# Altium schematic symbol library WE-PD2A_5848.SchLib: 24 symbols
Pins are listed as number, name and electrical type; pins without a type are passive.

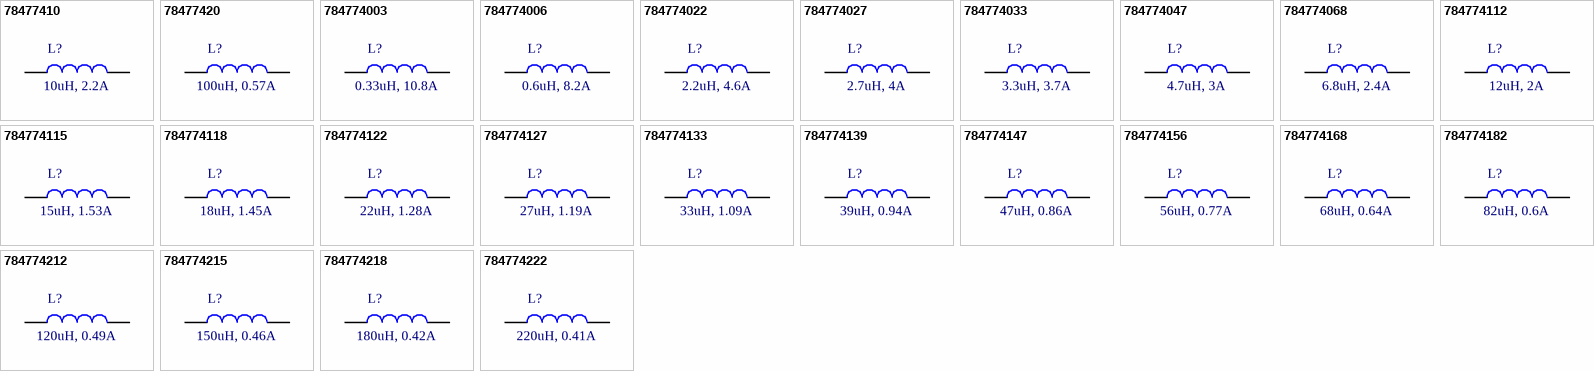
[diagram p0: symbols 78477410 to 784774222]

## 78477410
designator L?, comment 10uH, 2.2A
WE-PD2A SMT Power Inductor, size 5848, 10uH, 2.2A; Manufacturer Part Number: 78477410; Manufacturer: Wurth Elektronik; DC Resistance max.: 0.1Ohm; Saturation Current: 2.5A; Self Resonant Frequency: 26MHz; DC Resistance typ.: 0.078Ohm; Rated Voltage: 80VDC; ComponentLink1Description: Datasheet; ComponentLink1URL: https://www.we-online.com/catalog/datasheet/784774156.pdf; Published Date: May 2020; Rated Current: 2.2A; Inductance: 10uH; Operating Temperature: -40 to +125degC; Packaging: Tape and Reel; Size: 5848; Supplier 2 URL: https://www.digikey.com/en/products/detail/w%C3%BCrth-elektronik/78477410/5168779?s=N4IgTCBcDaIOwA4Asc5IIwAYQF0C%2BQA; Supplier 1 URL: https://www.mouser.vn/ProductDetail/Wurth-Elektronik/78477410?qs=sBf%2Fb4nBSldlX6CYaJExDg%3D%3D; Supplier 3 URL: https://www.thegioiic.com/cuon-cam-dan-smd-cd53-5852-100-10uh-1-8a; Value: 10uH, 2.2A; LCSC Part #: N/A; Mount: SMD/SMT; Supplier 1: Mouser; Supplier 1 Part Number: 710-78477410; Supplier 2: Digi-Key; Supplier 2 Part Number: 732-6830-2-ND; Supplier 3: thegioiic; Supplier 3 Part Number: N/A
footprint WE-PD2A_5848
pins: 1, 2

## 78477420
designator L?, comment 100uH, 0.57A
WE-PD2A SMT Power Inductor, size 5848, 100uH, 0.57A; Manufacturer Part Number: 78477420; Manufacturer: Wurth Elektronik; DC Resistance max.: 0.65Ohm; Saturation Current: 0.68A; Self Resonant Frequency: 7MHz; DC Resistance typ.: 0.51Ohm; Rated Voltage: 80VDC; ComponentLink1Description: Datasheet; ComponentLink1URL: https://www.we-online.com/catalog/datasheet/784774156.pdf; Published Date: May 2020; Rated Current: 0.57A; Inductance: 100uH; Operating Temperature: -40 to +125degC; Packaging: Tape and Reel; Size: 5848; Supplier 2 URL: https://www.digikey.com/en/products/detail/w%C3%BCrth-elektronik/78477420/5168780?s=N4IgTCBcDaIOwA4Asc5LABhAXQL5A; Supplier 1 URL: https://www.mouser.vn/ProductDetail/Wurth-Elektronik/78477420?qs=sBf%2Fb4nBSlcdU46whVu6%2FA%3D%3D; Supplier 3 URL: https://www.thegioiic.com/cuon-cam-dan-smd-cd53-5852-101-100uh-4-5a; Value: 100uH, 0.57A; LCSC Part #: N/A; Mount: SMD/SMT; Supplier 1: Mouser; Supplier 1 Part Number: 710-78477420; Supplier 2: Digi-Key; Supplier 2 Part Number: 732-6842-2-ND; Supplier 3: thegioiic; Supplier 3 Part Number: N/A
footprint WE-PD2A_5848
pins: 1, 2

## 784774003
designator L?, comment 0.33uH, 10.8A
WE-PD2A SMT Power Inductor, size 5848, 0.33uH, 10.8A; Manufacturer Part Number: 784774003; Manufacturer: Wurth Elektronik; DC Resistance max.: 0.008Ohm; Saturation Current: 15.3A; Self Resonant Frequency: 295MHz; DC Resistance typ.: 0.006Ohm; Rated Voltage: 80VDC; ComponentLink1Description: Datasheet; ComponentLink1URL: https://www.we-online.com/catalog/datasheet/784774156.pdf; Published Date: May 2020; Rated Current: 10.8A; Inductance: 0.33uH; Operating Temperature: -40 to +125degC; Packaging: Tape and Reel; Size: 5848; Supplier 2 URL: https://www.digikey.com/en/products/detail/w%C3%BCrth-elektronik/784774003/5168859?s=N4IgTCBcDaIOwA4Asc5IAzoMwgLoF8g; Supplier 1 URL: https://www.mouser.vn/ProductDetail/Wurth-Elektronik/784774003?qs=sBf%2Fb4nBSlfsz1qgrFR5cw%3D%3D; Supplier 3 URL: N/A; Value: 0.33uH, 10.8A; LCSC Part #: N/A; Mount: SMD/SMT; Supplier 1: Mouser; Supplier 1 Part Number: 710-784774003; Supplier 2: Digi-Key; Supplier 2 Part Number: 732-6823-2-ND; Supplier 3: thegioiic; Supplier 3 Part Number: N/A
footprint WE-PD2A_5848 (SMD Power Inductor, body 5.8x5.2mm)
pins: 1, 2

## 784774006
designator L?, comment 0.6uH, 8.2A
WE-PD2A SMT Power Inductor, size 5848, 0.6uH, 8.2A; Manufacturer Part Number: 784774006; Manufacturer: Wurth Elektronik; DC Resistance max.: 0.018Ohm; Saturation Current: 13.5A; Self Resonant Frequency: 210MHz; DC Resistance typ.: 0.009Ohm; Rated Voltage: 80VDC; ComponentLink1Description: Datasheet; ComponentLink1URL: https://www.we-online.com/catalog/datasheet/784774156.pdf; Published Date: May 2020; Rated Current: 8.2A; Inductance: 0.6uH; Operating Temperature: -40 to +125degC; Packaging: Tape and Reel; Size: 5848; Supplier 2 URL: https://www.digikey.com/en/products/detail/w%C3%BCrth-elektronik/784774006/5168860?s=N4IgTCBcDaIOwA4Asc5IAzoGwgLoF8g; Supplier 1 URL: https://www.mouser.vn/ProductDetail/Wurth-Elektronik/784774006?qs=sBf%2Fb4nBSld9EioUyJB1Lg%3D%3D; Supplier 3 URL: N/A; Value: 0.6uH, 8.2A; LCSC Part #: N/A; Mount: SMD/SMT; Supplier 1: Mouser; Supplier 1 Part Number: 710-784774006; Supplier 2: Digi-Key; Supplier 2 Part Number: 732-6824-2-ND; Supplier 3: thegioiic; Supplier 3 Part Number: N/A
footprint WE-PD2A_5848
pins: 1, 2

## 784774022
designator L?, comment 2.2uH, 4.6A
WE-PD2A SMT Power Inductor, size 5848, 2.2uH, 4.6A; Manufacturer Part Number: 784774022; Manufacturer: Wurth Elektronik; DC Resistance max.: 0.041Ohm; Saturation Current: 8.2A; Self Resonant Frequency: 54MHz; DC Resistance typ.: 0.026Ohm; Rated Voltage: 80VDC; ComponentLink1Description: Datasheet; ComponentLink1URL: https://www.we-online.com/catalog/datasheet/784774156.pdf; Published Date: May 2020; Rated Current: 4.6A; Inductance: 2.2uH; Operating Temperature: -40 to +125degC; Packaging: Tape and Reel; Size: 5848; Supplier 2 URL: https://www.digikey.com/en/products/detail/w%C3%BCrth-elektronik/784774022/5168861?s=N4IgTCBcDaIOwA4Asc5IAxggXQL5A; Supplier 1 URL: https://www.mouser.vn/ProductDetail/Wurth-Elektronik/784774022?qs=sBf%2Fb4nBSlfFQ39MxtOnjA%3D%3D; Supplier 3 URL: https://www.thegioiic.com/cuon-cam-dan-smd-cd53-5852-2r2-2-2uh-3-5a; Value: 2.2uH, 4.6A; LCSC Part #: N/A; Mount: SMD/SMT; Supplier 1: Mouser; Supplier 1 Part Number: 710-784774022; Supplier 2: Digi-Key; Supplier 2 Part Number: 732-6825-2-ND; Supplier 3: thegioiic; Supplier 3 Part Number: N/A
footprint WE-PD2A_5848
pins: 1, 2

## 784774027
designator L?, comment 2.7uH, 4A
WE-PD2A SMT Power Inductor, size 5848, 2.7uH, 4A; Manufacturer Part Number: 784774027; Manufacturer: Wurth Elektronik; DC Resistance max.: 0.045Ohm; Saturation Current: 8A; Self Resonant Frequency: 50MHz; DC Resistance typ.: 0.032Ohm; Rated Voltage: 80VDC; ComponentLink1Description: Datasheet; ComponentLink1URL: https://www.we-online.com/catalog/datasheet/784774156.pdf; Published Date: May 2020; Rated Current: 4A; Inductance: 2.7uH; Operating Temperature: -40 to +125degC; Packaging: Tape and Reel; Size: 5848; Supplier 2 URL: https://www.digikey.com/en/products/detail/w%C3%BCrth-elektronik/784774027/5168862?s=N4IgTCBcDaIOwA4Asc5IAxjiAugXyA; Supplier 1 URL: https://www.mouser.vn/ProductDetail/Wurth-Elektronik/784774027?qs=sBf%2Fb4nBSlfgMvNsCt7evg%3D%3D; Supplier 3 URL: https://www.thegioiic.com/cuon-cam-dan-smd-cd53-5852-2r7-2-7uh-3-2a; Value: 2.7uH, 4A; LCSC Part #: N/A; Mount: SMD/SMT; Supplier 1: Mouser; Supplier 1 Part Number: 710-784774027; Supplier 2: Digi-Key; Supplier 2 Part Number: 732-6826-2-ND; Supplier 3: thegioiic; Supplier 3 Part Number: N/A
footprint WE-PD2A_5848
pins: 1, 2

## 784774033
designator L?, comment 3.3uH, 3.7A
WE-PD2A SMT Power Inductor, size 5848, 3.3uH, 3.7A; Manufacturer Part Number: 784774033; Manufacturer: Wurth Elektronik; DC Resistance max.: 0.06Ohm; Saturation Current: 7.5A; Self Resonant Frequency: 43MHz; DC Resistance typ.: 0.042Ohm; Rated Voltage: 80VDC; ComponentLink1Description: Datasheet; ComponentLink1URL: https://www.we-online.com/catalog/datasheet/784774156.pdf; Published Date: May 2020; Rated Current: 3.7A; Inductance: 3.3uH; Operating Temperature: -40 to +125degC; Packaging: Tape and Reel; Size: 5848; Supplier 2 URL: https://www.digikey.com/en/products/detail/w%C3%BCrth-elektronik/784774033/5168863?s=N4IgTCBcDaIOwA4Asc5IAwGZMgLoF8g; Supplier 1 URL: https://www.mouser.vn/ProductDetail/Wurth-Elektronik/784774033?qs=sBf%2Fb4nBSldyuij1RzSGcA%3D%3D; Supplier 3 URL: https://www.thegioiic.com/cuon-cam-dan-smd-cd53-5852-3r3-3-3uh-2-8a; Value: 3.3uH, 3.7A; LCSC Part #: N/A; Mount: SMD/SMT; Supplier 1: Mouser; Supplier 1 Part Number: 710-784774033; Supplier 2: Digi-Key; Supplier 2 Part Number: 732-6827-2-ND; Supplier 3: thegioiic; Supplier 3 Part Number: N/A
footprint WE-PD2A_5848
pins: 1, 2

## 784774047
designator L?, comment 4.7uH, 3A
WE-PD2A SMT Power Inductor, size 5848, 4.7uH, 3A; Manufacturer Part Number: 784774047; Manufacturer: Wurth Elektronik; DC Resistance max.: 0.071Ohm; Saturation Current: 5.5A; Self Resonant Frequency: 33MHz; DC Resistance typ.: 0.056Ohm; Rated Voltage: 80VDC; ComponentLink1Description: Datasheet; ComponentLink1URL: https://www.we-online.com/catalog/datasheet/784774156.pdf; Published Date: May 2020; Rated Current: 3A; Inductance: 4.7uH; Operating Temperature: -40 to +125degC; Packaging: Tape and Reel; Size: 5848; Supplier 2 URL: https://www.digikey.com/en/products/detail/w%C3%BCrth-elektronik/784774047/5168864?s=N4IgTCBcDaIOwA4Asc5IAwpAXQL5A; Supplier 1 URL: https://www.mouser.vn/ProductDetail/Wurth-Elektronik/784774047?qs=sBf%2Fb4nBSld3fMFHG3nO%252Bw%3D%3D; Supplier 3 URL: https://www.thegioiic.com/cuon-cam-dan-smd-cd53-5852-4r7-4-7uh-2-5a; Value: 4.7uH, 3A; LCSC Part #: N/A; Mount: SMD/SMT; Supplier 1: Mouser; Supplier 1 Part Number: 710-784774047; Supplier 2: Digi-Key; Supplier 2 Part Number: 732-6828-2-ND; Supplier 3: thegioiic; Supplier 3 Part Number: N/A
footprint WE-PD2A_5848
pins: 1, 2

## 784774068
designator L?, comment 6.8uH, 2.4A
WE-PD2A SMT Power Inductor, size 5848, 6.8uH, 2.4A; Manufacturer Part Number: 784774068; Manufacturer: Wurth Elektronik; DC Resistance max.: 0.082Ohm; Saturation Current: 5A; Self Resonant Frequency: 28MHz; DC Resistance typ.: 0.071Ohm; Rated Voltage: 80VDC; ComponentLink1Description: Datasheet; ComponentLink1URL: https://www.we-online.com/catalog/datasheet/784774156.pdf; Published Date: May 2020; Rated Current: 2.4A; Inductance: 6.8uH; Operating Temperature: -40 to +125degC; Packaging: Tape and Reel; Size: 5848; Supplier 2 URL: https://www.digikey.com/en/products/detail/w%C3%BCrth-elektronik/784774068/5168865?s=N4IgTCBcDaIOwA4Asc5IAwDYEgLoF8g; Supplier 1 URL: https://www.mouser.vn/ProductDetail/Wurth-Elektronik/784774068?qs=sBf%2Fb4nBSlfEjoZazogbYQ%3D%3D; Supplier 3 URL: https://www.thegioiic.com/cuon-cam-dan-smd-cd53-5852-6r8-6-8uh-2-2a; Value: 6.8uH, 2.4A; LCSC Part #: N/A; Mount: SMD/SMT; Supplier 1: Mouser; Supplier 1 Part Number: 710-784774068; Supplier 2: Digi-Key; Supplier 2 Part Number: 732-6829-2-ND; Supplier 3: thegioiic; Supplier 3 Part Number: N/A
footprint WE-PD2A_5848
pins: 1, 2

## 784774112
designator L?, comment 12uH, 2A
WE-PD2A SMT Power Inductor, size 5848, 12uH, 2A; Manufacturer Part Number: 784774112; Manufacturer: Wurth Elektronik; DC Resistance max.: 0.11Ohm; Saturation Current: 1.94A; Self Resonant Frequency: 24MHz; DC Resistance typ.: 0.082Ohm; Rated Voltage: 80VDC; ComponentLink1Description: Datasheet; ComponentLink1URL: https://www.we-online.com/catalog/datasheet/784774156.pdf; Published Date: May 2020; Rated Current: 2A; Inductance: 12uH; Operating Temperature: -40 to +125degC; Packaging: Tape and Reel; Size: 5848; Supplier 2 URL: https://www.digikey.com/en/products/detail/w%C3%BCrth-elektronik/784774112/5168866?s=N4IgTCBcDaIOwA4Asc5IIzogXQL5A; Supplier 1 URL: https://www.mouser.vn/ProductDetail/Wurth-Elektronik/784774112?qs=sBf%2Fb4nBSlcatMhetvXIaQ%3D%3D; Supplier 3 URL: N/A; Value: 12uH, 2A; LCSC Part #: N/A; Mount: SMD/SMT; Supplier 1: Mouser; Supplier 1 Part Number: 710-784774112; Supplier 2: Digi-Key; Supplier 2 Part Number: 732-6831-2-ND; Supplier 3: thegioiic; Supplier 3 Part Number: N/A
footprint WE-PD2A_5848
pins: 1, 2

## 784774115
designator L?, comment 15uH, 1.53A
WE-PD2A SMT Power Inductor, size 5848, 15uH, 1.53A; Manufacturer Part Number: 784774115; Manufacturer: Wurth Elektronik; DC Resistance max.: 0.14Ohm; Saturation Current: 1.9A; Self Resonant Frequency: 20MHz; DC Resistance typ.: 0.089Ohm; Rated Voltage: 80VDC; ComponentLink1Description: Datasheet; ComponentLink1URL: https://www.we-online.com/catalog/datasheet/784774156.pdf; Published Date: May 2020; Rated Current: 1.53A; Inductance: 15uH; Operating Temperature: -40 to +125degC; Packaging: Tape and Reel; Size: 5848; Supplier 2 URL: https://www.digikey.com/en/products/detail/w%C3%BCrth-elektronik/784774115/5168867?s=N4IgTCBcDaIOwA4Asc5IIzoKwgLoF8g; Supplier 1 URL: https://www.mouser.vn/ProductDetail/Wurth-Elektronik/784774115?qs=sBf%2Fb4nBSleoo7TtqR8SIg%3D%3D; Supplier 3 URL: https://www.thegioiic.com/cuon-cam-dan-smd-cd53-5852-150-15uh-1-7a; Value: 15uH, 1.53A; LCSC Part #: N/A; Mount: SMD/SMT; Supplier 1: Mouser; Supplier 1 Part Number: 710-784774115; Supplier 2: Digi-Key; Supplier 2 Part Number: 732-6832-2-ND; Supplier 3: thegioiic; Supplier 3 Part Number: N/A
footprint WE-PD2A_5848
pins: 1, 2

## 784774118
designator L?, comment 18uH, 1.45A
WE-PD2A SMT Power Inductor, size 5848, 18uH, 1.45A; Manufacturer Part Number: 784774118; Manufacturer: Wurth Elektronik; DC Resistance max.: 0.15Ohm; Saturation Current: 1.69A; Self Resonant Frequency: 19MHz; DC Resistance typ.: 0.104Ohm; Rated Voltage: 80VDC; ComponentLink1Description: Datasheet; ComponentLink1URL: https://www.we-online.com/catalog/datasheet/784774156.pdf; Published Date: May 2020; Rated Current: 1.45A; Inductance: 18uH; Operating Temperature: -40 to +125degC; Packaging: Tape and Reel; Size: 5848; Supplier 2 URL: https://www.digikey.com/en/products/detail/w%C3%BCrth-elektronik/784774118/5168868?s=N4IgTCBcDaIOwA4Asc5IIzoSAugXyA; Supplier 1 URL: https://www.mouser.vn/ProductDetail/Wurth-Elektronik/784774118?qs=sBf%2Fb4nBSldyi82E%2Fy0cEQ%3D%3D; Supplier 3 URL: https://www.thegioiic.com/cuon-cam-dan-smd-cd53-5852-180-18uh-1-6a; Value: 18uH, 1.45A; LCSC Part #: N/A; Mount: SMD/SMT; Supplier 1: Mouser; Supplier 1 Part Number: 710-784774118; Supplier 2: Digi-Key; Supplier 2 Part Number: 732-6833-2-ND; Supplier 3: thegioiic; Supplier 3 Part Number: N/A
footprint WE-PD2A_5848
pins: 1, 2

## 784774122
designator L?, comment 22uH, 1.28A
WE-PD2A SMT Power Inductor, size 5848, 22uH, 1.28A; Manufacturer Part Number: 784774122; Manufacturer: Wurth Elektronik; DC Resistance max.: 0.18Ohm; Saturation Current: 1.53A; Self Resonant Frequency: 16MHz; DC Resistance typ.: 0.109Ohm; Rated Voltage: 80VDC; ComponentLink1Description: Datasheet; ComponentLink1URL: https://www.we-online.com/catalog/datasheet/784774156.pdf; Published Date: May 2020; Rated Current: 1.28A; Inductance: 22uH; Operating Temperature: -40 to +125degC; Packaging: Tape and Reel; Size: 5848; Supplier 2 URL: https://www.digikey.com/en/products/detail/w%C3%BCrth-elektronik/784774122/5168869?s=N4IgTCBcDaIOwA4Asc5IIxggXQL5A; Supplier 1 URL: https://www.mouser.vn/ProductDetail/Wurth-Elektronik/784774122?qs=sBf%2Fb4nBSlfVM2OiWUTSBg%3D%3D; Supplier 3 URL: https://www.thegioiic.com/cuon-cam-dan-smd-cd53-5852-220-22uh-1-5a; Value: 22uH, 1.28A; LCSC Part #: N/A; Mount: SMD/SMT; Supplier 1: Mouser; Supplier 1 Part Number: 710-784774122; Supplier 2: Digi-Key; Supplier 2 Part Number: 732-6834-2-ND; Supplier 3: thegioiic; Supplier 3 Part Number: N/A
footprint WE-PD2A_5848
pins: 1, 2

## 784774127
designator L?, comment 27uH, 1.19A
WE-PD2A SMT Power Inductor, size 5848, 27uH, 1.19A; Manufacturer Part Number: 784774127; Manufacturer: Wurth Elektronik; DC Resistance max.: 0.2Ohm; Saturation Current: 1.4A; Self Resonant Frequency: 15MHz; DC Resistance typ.: 0.133Ohm; Rated Voltage: 80VDC; ComponentLink1Description: Datasheet; ComponentLink1URL: https://www.we-online.com/catalog/datasheet/784774156.pdf; Published Date: May 2020; Rated Current: 1.19A; Inductance: 27uH; Operating Temperature: -40 to +125degC; Packaging: Tape and Reel; Size: 5848; Supplier 2 URL: https://www.digikey.com/en/products/detail/w%C3%BCrth-elektronik/784774127/5168870?s=N4IgTCBcDaIOwA4Asc5IIxjiAugXyA; Supplier 1 URL: https://www.mouser.vn/ProductDetail/Wurth-Elektronik/784774127?qs=sBf%2Fb4nBSldrlnc5m4le1w%3D%3D; Supplier 3 URL: https://www.thegioiic.com/cuon-cam-dan-smd-cd53-5852-270-27uh-1-4a; Value: 27uH, 1.19A; LCSC Part #: N/A; Mount: SMD/SMT; Supplier 1: Mouser; Supplier 1 Part Number: 710-784774127; Supplier 2: Digi-Key; Supplier 2 Part Number: 732-6835-2-ND; Supplier 3: thegioiic; Supplier 3 Part Number: N/A
footprint WE-PD2A_5848
pins: 1, 2

## 784774133
designator L?, comment 33uH, 1.09A
WE-PD2A SMT Power Inductor, size 5848, 33uH, 1.09A; Manufacturer Part Number: 784774133; Manufacturer: Wurth Elektronik; DC Resistance max.: 0.23Ohm; Saturation Current: 1.17A; Self Resonant Frequency: 14MHz; DC Resistance typ.: 0.15Ohm; Rated Voltage: 80VDC; ComponentLink1Description: Datasheet; ComponentLink1URL: https://www.we-online.com/catalog/datasheet/784774156.pdf; Published Date: May 2020; Rated Current: 1.09A; Inductance: 33uH; Operating Temperature: -40 to +125degC; Packaging: Tape and Reel; Size: 5848; Supplier 2 URL: https://www.digikey.com/en/products/detail/w%C3%BCrth-elektronik/784774133/5168871?s=N4IgTCBcDaIOwA4Asc5IIwGZMgLoF8g; Supplier 1 URL: https://www.mouser.vn/ProductDetail/Wurth-Elektronik/784774133?qs=sBf%2Fb4nBSlcKSvlJ1UQYww%3D%3D; Supplier 3 URL: https://www.thegioiic.com/cuon-cam-dan-smd-cd53-5852-330-33uh-1-1a; Value: 33uH, 1.09A; LCSC Part #: N/A; Mount: SMD/SMT; Supplier 1: Mouser; Supplier 1 Part Number: 710-784774133; Supplier 2: Digi-Key; Supplier 2 Part Number: 732-6836-2-ND; Supplier 3: thegioiic; Supplier 3 Part Number: N/A
footprint WE-PD2A_5848
pins: 1, 2

## 784774139
designator L?, comment 39uH, 0.94A
WE-PD2A SMT Power Inductor, size 5848, 39uH, 0.94A; Manufacturer Part Number: 784774139; Manufacturer: Wurth Elektronik; DC Resistance max.: 0.32Ohm; Saturation Current: 1.1A; Self Resonant Frequency: 12MHz; DC Resistance typ.: 0.215Ohm; Rated Voltage: 80VDC; ComponentLink1Description: Datasheet; ComponentLink1URL: https://www.we-online.com/catalog/datasheet/784774156.pdf; Published Date: May 2020; Rated Current: 0.94A; Inductance: 39uH; Operating Temperature: -40 to +125degC; Packaging: Tape and Reel; Size: 5848; Supplier 2 URL: https://www.digikey.com/en/products/detail/w%C3%BCrth-elektronik/784774139/5168872?s=N4IgTCBcDaIOwA4Asc5IIwGYCcIC6AvkA; Supplier 1 URL: https://www.mouser.vn/ProductDetail/Wurth-Elektronik/784774139?qs=sBf%2Fb4nBSlf29NmVSXGfqA%3D%3D; Supplier 3 URL: https://www.thegioiic.com/cuon-cam-dan-smd-cd53-5852-390-39uh-1a; Value: 39uH, 0.94A; LCSC Part #: N/A; Mount: SMD/SMT; Supplier 1: Mouser; Supplier 1 Part Number: 710-784774139; Supplier 2: Digi-Key; Supplier 2 Part Number: 732-6837-2-ND; Supplier 3: thegioiic; Supplier 3 Part Number: N/A
footprint WE-PD2A_5848
pins: 1, 2

## 784774147
designator L?, comment 47uH, 0.86A
WE-PD2A SMT Power Inductor, size 5848, 47uH, 0.86A; Manufacturer Part Number: 784774147; Manufacturer: Wurth Elektronik; DC Resistance max.: 0.37Ohm; Saturation Current: 1A; Self Resonant Frequency: 10MHz; DC Resistance typ.: 0.26Ohm; Rated Voltage: 80VDC; ComponentLink1Description: Datasheet; ComponentLink1URL: https://www.we-online.com/catalog/datasheet/784774156.pdf; Published Date: May 2020; Rated Current: 0.86A; Inductance: 47uH; Operating Temperature: -40 to +125degC; Packaging: Tape and Reel; Size: 5848; Supplier 2 URL: https://www.digikey.com/en/products/detail/w%C3%BCrth-elektronik/784774147/5168873?s=N4IgTCBcDaIOwA4Asc5IIwpAXQL5A; Supplier 1 URL: https://www.mouser.vn/ProductDetail/Wurth-Elektronik/784774147?qs=sBf%2Fb4nBSlctzbnKAYzY9w%3D%3D; Supplier 3 URL: N/A; Value: 47uH, 0.86A; LCSC Part #: N/A; Mount: SMD/SMT; Supplier 1: Mouser; Supplier 1 Part Number: 710-784774147; Supplier 2: Digi-Key; Supplier 2 Part Number: 732-6838-2-ND; Supplier 3: thegioiic; Supplier 3 Part Number: N/A
footprint WE-PD2A_5848
pins: 1, 2

## 784774156
designator L?, comment 56uH, 0.77A
WE-PD2A SMT Power Inductor, size 5848, 56uH, 0.77A; Manufacturer Part Number: 784774156; Manufacturer: Wurth Elektronik; DC Resistance max.: 0.42Ohm; Saturation Current: 0.9A; Self Resonant Frequency: 10MHz; DC Resistance typ.: 0.298Ohm; Rated Voltage: 80VDC; ComponentLink1Description: Datasheet; ComponentLink1URL: https://www.we-online.com/catalog/datasheet/784774156.pdf; Published Date: May 2020; Rated Current: 0.77A; Inductance: 56uH; Operating Temperature: -40 to +125degC; Packaging: Tape and Reel; Size: 5848; Supplier 2 URL: https://www.digikey.com/en/products/detail/w%C3%BCrth-elektronik/784774156/5168874?s=N4IgTCBcDaIOwA4Asc5IIwFYBsIC6AvkA; Supplier 1 URL: https://www.mouser.vn/ProductDetail/Wurth-Elektronik/784774156?qs=sBf%2Fb4nBSlc%2FUe5VBOi2yA%3D%3D; Supplier 3 URL: N/A; Value: 56uH, 0.77A; LCSC Part #: N/A; Mount: SMD/SMT; Supplier 1: Mouser; Supplier 1 Part Number: 710-784774156; Supplier 2: Digi-Key; Supplier 2 Part Number: 732-6839-2-ND; Supplier 3: thegioiic; Supplier 3 Part Number: N/A
footprint WE-PD2A_5848
pins: 1, 2

## 784774168
designator L?, comment 68uH, 0.64A
WE-PD2A SMT Power Inductor, size 5848, 68uH, 0.64A; Manufacturer Part Number: 784774168; Manufacturer: Wurth Elektronik; DC Resistance max.: 0.46Ohm; Saturation Current: 0.86A; Self Resonant Frequency: 10MHz; DC Resistance typ.: 0.313Ohm; Rated Voltage: 80VDC; ComponentLink1Description: Datasheet; ComponentLink1URL: https://www.we-online.com/catalog/datasheet/784774156.pdf; Published Date: May 2020; Rated Current: 0.64A; Inductance: 68uH; Operating Temperature: -40 to +125degC; Packaging: Tape and Reel; Size: 5848; Supplier 2 URL: https://www.digikey.com/en/products/detail/w%C3%BCrth-elektronik/784774168/5168875?s=N4IgTCBcDaIOwA4Asc5IIwDYEgLoF8g; Supplier 1 URL: https://www.mouser.vn/ProductDetail/Wurth-Elektronik/784774168?qs=sBf%2Fb4nBSld9uN%2F8XgaVFw%3D%3D; Supplier 3 URL: N/A; Value: 68uH, 0.64A; LCSC Part #: N/A; Mount: SMD/SMT; Supplier 1: Mouser; Supplier 1 Part Number: 710-784774168; Supplier 2: Digi-Key; Supplier 2 Part Number: 732-6840-2-ND; Supplier 3: thegioiic; Supplier 3 Part Number: N/A
footprint WE-PD2A_5848
pins: 1, 2

## 784774182
designator L?, comment 82uH, 0.6A
WE-PD2A SMT Power Inductor, size 5848, 82uH, 0.6A; Manufacturer Part Number: 784774182; Manufacturer: Wurth Elektronik; DC Resistance max.: 0.6Ohm; Saturation Current: 0.72A; Self Resonant Frequency: 8MHz; DC Resistance typ.: 0.475Ohm; Rated Voltage: 80VDC; ComponentLink1Description: Datasheet; ComponentLink1URL: https://www.we-online.com/catalog/datasheet/784774156.pdf; Published Date: May 2020; Rated Current: 0.6A; Inductance: 82uH; Operating Temperature: -40 to +125degC; Packaging: Tape and Reel; Size: 5848; Supplier 2 URL: https://www.digikey.com/en/products/detail/w%C3%BCrth-elektronik/784774182/5168876?s=N4IgTCBcDaIOwA4Asc5IIwIgXQL5A; Supplier 1 URL: https://www.mouser.vn/ProductDetail/Wurth-Elektronik/784774182?qs=sBf%2Fb4nBSlcez0lEaidETg%3D%3D; Supplier 3 URL: N/A; Value: 82uH, 0.6A; LCSC Part #: N/A; Mount: SMD/SMT; Supplier 1: Mouser; Supplier 1 Part Number: 710-784774182; Supplier 2: Digi-Key; Supplier 2 Part Number: 732-6841-2-ND; Supplier 3: thegioiic; Supplier 3 Part Number: N/A
footprint WE-PD2A_5848
pins: 1, 2

## 784774212
designator L?, comment 120uH, 0.49A
WE-PD2A SMT Power Inductor, size 5848, 120uH, 0.49A; Manufacturer Part Number: 784774212; Manufacturer: Wurth Elektronik; DC Resistance max.: 0.93Ohm; Saturation Current: 0.63A; Self Resonant Frequency: 7MHz; DC Resistance typ.: 0.66Ohm; Rated Voltage: 80VDC; ComponentLink1Description: Datasheet; ComponentLink1URL: https://www.we-online.com/catalog/datasheet/784774156.pdf; Published Date: May 2020; Rated Current: 0.49A; Inductance: 120uH; Operating Temperature: -40 to +125degC; Packaging: Tape and Reel; Size: 5848; Supplier 2 URL: https://www.digikey.com/en/products/detail/w%C3%BCrth-elektronik/784774212/5168877?s=N4IgTCBcDaIOwA4Asc5LARggXQL5A; Supplier 1 URL: https://www.mouser.vn/ProductDetail/Wurth-Elektronik/784774212?qs=sBf%2Fb4nBSlf8mVbHwLAxxA%3D%3D; Supplier 3 URL: N/A; Value: 120uH, 0.49A; LCSC Part #: N/A; Mount: SMD/SMT; Supplier 1: Mouser; Supplier 1 Part Number: 710-784774212; Supplier 2: Digi-Key; Supplier 2 Part Number: 732-6843-2-ND; Supplier 3: thegioiic; Supplier 3 Part Number: N/A
footprint WE-PD2A_5848
pins: 1, 2

## 784774215
designator L?, comment 150uH, 0.46A
WE-PD2A SMT Power Inductor, size 5848, 150uH, 0.46A; Manufacturer Part Number: 784774215; Manufacturer: Wurth Elektronik; DC Resistance max.: 1.1Ohm; Saturation Current: 0.54A; Self Resonant Frequency: 6MHz; DC Resistance typ.: 0.72Ohm; Rated Voltage: 80VDC; ComponentLink1Description: Datasheet; ComponentLink1URL: https://www.we-online.com/catalog/datasheet/784774156.pdf; Published Date: May 2020; Rated Current: 0.46A; Inductance: 150uH; Operating Temperature: -40 to +125degC; Packaging: Tape and Reel; Size: 5848; Supplier 2 URL: https://www.digikey.com/en/products/detail/w%C3%BCrth-elektronik/784774215/5168878?s=N4IgTCBcDaIOwA4Asc5LARgKwgLoF8g; Supplier 1 URL: https://www.mouser.vn/ProductDetail/Wurth-Elektronik/784774215?qs=sBf%2Fb4nBSldOI6iEaAoXhQ%3D%3D; Supplier 3 URL: N/A; Value: 150uH, 0.46A; LCSC Part #: N/A; Mount: SMD/SMT; Supplier 1: Mouser; Supplier 1 Part Number: 710-784774215; Supplier 2: Digi-Key; Supplier 2 Part Number: 732-6844-2-ND; Supplier 3: thegioiic; Supplier 3 Part Number: N/A
footprint WE-PD2A_5848
pins: 1, 2

## 784774218
designator L?, comment 180uH, 0.42A
WE-PD2A SMT Power Inductor, size 5848, 180uH, 0.42A; Manufacturer Part Number: 784774218; Manufacturer: Wurth Elektronik; DC Resistance max.: 1.38Ohm; Saturation Current: 0.5A; Self Resonant Frequency: 6MHz; DC Resistance typ.: 0.85Ohm; Rated Voltage: 80VDC; ComponentLink1Description: Datasheet; ComponentLink1URL: https://www.we-online.com/catalog/datasheet/784774156.pdf; Published Date: May 2020; Rated Current: 0.42A; Inductance: 180uH; Operating Temperature: -40 to +125degC; Packaging: Tape and Reel; Size: 5848; Supplier 2 URL: https://www.digikey.com/en/products/detail/w%C3%BCrth-elektronik/784774218/5168879?s=N4IgTCBcDaIOwA4Asc5LARgSAugXyA; Supplier 1 URL: https://www.mouser.vn/ProductDetail/Wurth-Elektronik/784774218?qs=sBf%2Fb4nBSle8%2F%2Fncjy8uHQ%3D%3D; Supplier 3 URL: N/A; Value: 180uH, 0.42A; LCSC Part #: N/A; Mount: SMD/SMT; Supplier 1: Mouser; Supplier 1 Part Number: 710-784774218; Supplier 2: Digi-Key; Supplier 2 Part Number: 732-6845-2-ND; Supplier 3: thegioiic; Supplier 3 Part Number: N/A
footprint WE-PD2A_5848
pins: 1, 2

## 784774222
designator L?, comment 220uH, 0.41A
WE-PD2A SMT Power Inductor, size 5848, 220uH, 0.41A; Manufacturer Part Number: 784774222; Manufacturer: Wurth Elektronik; DC Resistance max.: 1.57Ohm; Saturation Current: 0.47A; Self Resonant Frequency: 5MHz; DC Resistance typ.: 0.945Ohm; Rated Voltage: 80VDC; ComponentLink1Description: Datasheet; ComponentLink1URL: https://www.we-online.com/catalog/datasheet/784774156.pdf; Published Date: May 2020; Rated Current: 0.41A; Inductance: 220uH; Operating Temperature: -40 to +125degC; Packaging: Tape and Reel; Size: 5848; Supplier 2 URL: https://www.digikey.com/en/products/detail/w%C3%BCrth-elektronik/784774222/5168880?s=N4IgTCBcDaIOwA4Asc5LBkBdAvkA; Supplier 1 URL: https://www.mouser.vn/ProductDetail/Wurth-Elektronik/784774222?qs=sBf%2Fb4nBSlf2yvEr8fQTJA%3D%3D; Supplier 3 URL: N/A; Value: 220uH, 0.41A; LCSC Part #: N/A; Mount: SMD/SMT; Supplier 1: Mouser; Supplier 1 Part Number: 710-784774222; Supplier 2: Digi-Key; Supplier 2 Part Number: 732-6846-2-ND; Supplier 3: thegioiic; Supplier 3 Part Number: N/A
footprint WE-PD2A_5848
pins: 1, 2